# Altium schematic symbol library Connector - XH-2.54.SchLib: 3 symbols
Pins are listed as number, name and electrical type; pins without a type are passive.

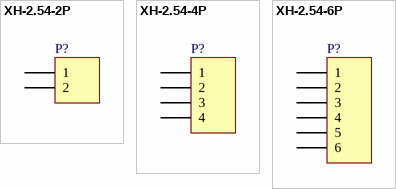
[diagram p0: symbols XH-2.54-2P to XH-2.54-6P]

## XH-2.54-2P
designator P?
LatestRevisionDate: 17-Jul-2002; LatestRevisionNote: Re-released for DXP Platform.; Publisher: Altium Limited
footprint XH-2.54_2P_A
footprint XH-2.54_2P_AW
pins: 1, 2

## XH-2.54-4P
designator P?
LatestRevisionDate: 17-Jul-2002; LatestRevisionNote: Re-released for DXP Platform.; Publisher: Altium Limited
footprint XH-2.54_4P_A
footprint XH-2.54_4P_AW
pins: 1, 2, 3, 4

## XH-2.54-6P
designator P?
LatestRevisionDate: 17-Jul-2002; LatestRevisionNote: Re-released for DXP Platform.; Publisher: Altium Limited
footprint XH-2.54_6P_A
pins: 1, 2, 3, 4, 5, 6